# Altium schematic symbol library 7464000.SchLib: 1 symbol
Pins are listed as number, name and electrical type; pins without a type are passive.

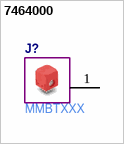
[diagram p0: symbol 7464000]

## 7464000
designator J?  Manufacturer Part Number: MMBTXXX  (hidden comment: *)
pins: 1